# Altium schematic symbol library Fairchild-Diodes.SchLib: 1 symbol
Pins are listed as number, name and electrical type; pins without a type are passive.

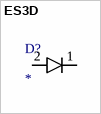
[diagram p0: symbol ES3D]

## ES3D
designator D?
ES3D diode
footprint DO-214AB (SMC)
pins: 1, 2